# Altium footprint library connector.PcbLib: 4 footprints
Each footprint in its own frame and in the unit in brackets; x right, y up, seen from the top. Pads: shape width x height; smd on the part's side, far side on the other; paste and mask are expansions set on the pad; w line width, h text height; cw(c..) or ccw(c..) is an arc to the next point about the centre after c.
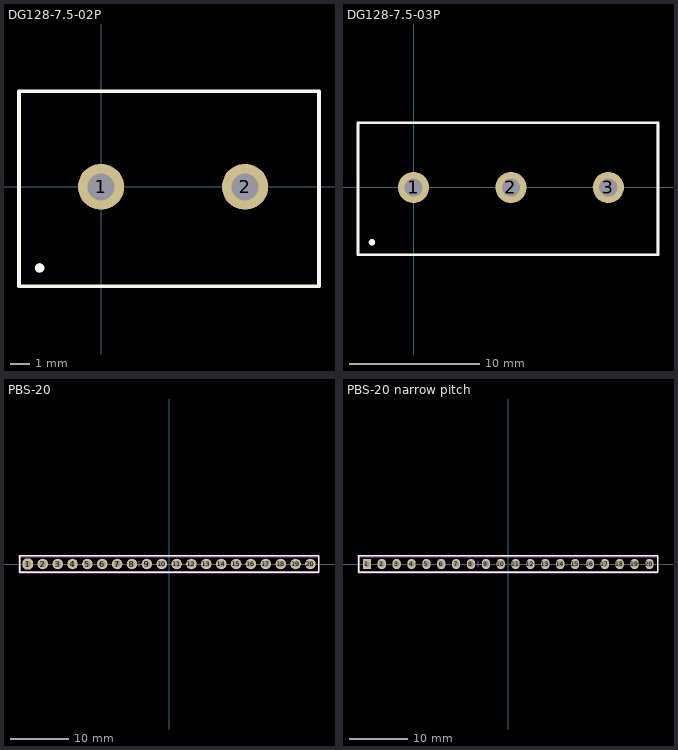
[diagram p0: the footprints below, top view; thin cyan lines are the x and y axes]

## DG128-7.5-02P [mm]
pads (3):
  round 2.4 hole 1.4: 1(0,0) 2(7.5,0)
  round 0.5 on Top Overlay: ""(-3.2,-4.225)
Top Overlay:
  lines w0.2: -4.275,-5.175 -4.275,4.975 11.35,4.975 11.35,-5.175 -4.275,-5.175
Mechanical 1:
  lines w0.1: -4.275,-5.175 11.35,-5.175 11.35,4.975 -4.275,4.975 -4.275,-5.175
Mechanical 15:
  lines w0.1: -4.275,-5.2 11.3,-5.2 11.3,4.975 -4.275,4.975 -4.275,-5.2
3D body "DG128-7.5-02P-14-00AH.STEP": height 14.1, standoff -3.4, extent -4.3,-5.225 11.3,4.975

## DG128-7.5-03P [mm]
pads (4):
  round 2.4 hole 1.4: 1(0,0) 2(7.5,0) 3(15,0)
  round 0.5 on Top Overlay: ""(-3.2,-4.225)
Top Overlay:
  lines w0.2: -4.275,-5.175 18.825,-5.175 18.825,4.975 -4.275,4.975 -4.275,-5.175
Mechanical 1:
  lines w0.1: -4.275,-5.225 -4.275,4.975 18.775,4.975 18.775,-5.225 -4.275,-5.225
Mechanical 15:
  lines w0.1: -4.275,-5.2 -4.275,4.975 18.775,4.975 18.775,-5.2 -4.275,-5.2
3D body "DG128-7.5-03P-14-00AH.STEP": height 14.1, standoff -3.4, extent -4.325,-5.25 18.775,4.95

## PBS-20 [mm] "PBS-16"
height 10
pads (20):
  oct 1.8x1.8 hole 1.1: 1(-24.13,0)
  round 1.8 hole 1.1: 2(-21.59,0) 3(-19.05,0) 4(-16.51,0) 5(-13.97,0) 6(-11.43,0) 7(-8.89,0) 8(-6.35,0) 9(-3.81,0) 10(-1.27,0) 11(1.27,0) 12(3.81,0) 13(6.35,0) 14(8.89,0) 15(11.43,0) 16(13.97,0) 17(16.51,0) 18(19.05,0) 19(21.59,0) 20(24.13,0)
Top Overlay:
  lines w0.254: -25.555,-1.425 25.6,-1.425 25.6,1.425 -25.555,1.425 -25.555,-1.425
Mechanical 1:
  lines w0.1: -25.4,-1.27 -25.4,1.27 25.6,1.27 25.6,-1.27 -25.4,-1.27
Mechanical 15:
  lines w0.05: -25.654,-1.524 25.6,-1.524 25.6,1.524 -25.654,1.524 -25.654,-1.524
  lines w0.1: -5.58,0 -4.58,0 ; -5.08,-0.5 -5.08,0.5
3D body "User Library-PBS_(DS1023)_1line_connectors_h=5_0_8_5mm_step_2_54mm-1.STEP": height 8.53, standoff -2.97, extent -25.65,-1.25 25.65,1.25

## PBS-20 narrow pitch [mm]
height 10
pads (20):
  rect 1.4x1.778 hole 1: 1(-24.13,0)
  oval 1.4x1.778 hole 1: 2(-21.59,0) 3(-19.05,0) 4(-16.51,0) 5(-13.97,0) 6(-11.43,0) 7(-8.89,0) 8(-6.35,0) 9(-3.81,0) 10(-1.27,0) 11(1.27,0) 12(3.81,0) 13(6.35,0) 14(8.89,0) 15(11.43,0) 16(13.97,0) 17(16.51,0) 18(19.05,0) 19(21.59,0) 20(24.13,0)
Top Overlay:
  lines w0.254: -25.555,-1.425 25.6,-1.425 25.6,1.425 -25.555,1.425 -25.555,-1.425
Mechanical 1:
  lines w0.1: -25.4,-1.27 -25.4,1.27 25.6,1.27 25.6,-1.27 -25.4,-1.27
Mechanical 15:
  lines w0.05: -25.654,-1.524 25.6,-1.524 25.6,1.524 -25.654,1.524 -25.654,-1.524
  lines w0.1: -5.58,0 -4.58,0 ; -5.08,-0.5 -5.08,0.5
3D body "User Library-PBS_(DS1023)_1line_connectors_h=5_0_8_5mm_step_2_54mm-1.STEP": height 8.53, standoff -2.97, extent -25.65,-1.25 25.65,1.25